# Altium footprint library ESP32_with pin.PcbLib: 1 footprints
Each footprint in its own frame and in the unit in brackets; x right, y up, seen from the top. Pads: shape width x height; smd on the part's side, far side on the other; paste and mask are expansions set on the pad; w line width, h text height; cw(c..) or ccw(c..) is an arc to the next point about the centre after c.
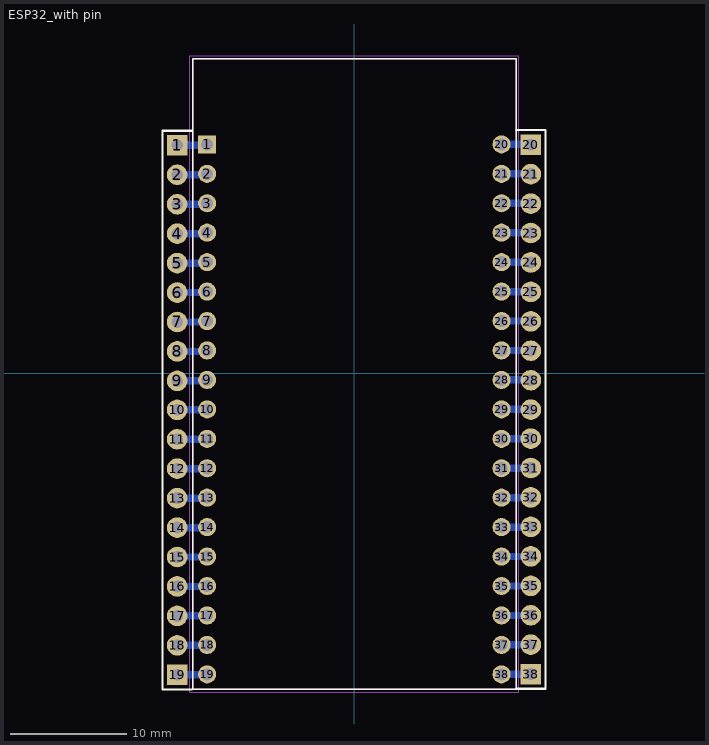
[diagram p0: the footprint, top view; thin cyan lines are the x and y axes]

## ESP32_with pin [mm]
pads (76):
  rect 1.778x1.778 hole 1.016: 1(-15.283,19.677) 19(-15.284,-25.999) 20(15.224,19.734) 38(15.223,-25.942)
  rect 1.56x1.56 hole 1.04: 1(-12.7,19.76)
  round 1.778 hole 1.016: 2(-15.283,17.137) 3(-15.283,14.597) 4(-15.283,12.057) 5(-15.283,9.517) 6(-15.283,6.977) 7(-15.283,4.437) 8(-15.283,1.897) 9(-15.283,-0.643) 10(-15.284,-3.139) 11(-15.284,-5.679) 12(-15.284,-8.219) 13(-15.284,-10.759) 14(-15.284,-13.299) 15(-15.284,-15.839) 16(-15.284,-18.379) 17(-15.284,-20.919) 18(-15.284,-23.459) 21(15.224,17.194) 22(15.224,14.654) 23(15.224,12.114) 24(15.224,9.574) 25(15.224,7.034) 26(15.224,4.494) 27(15.224,1.954) 28(15.224,-0.586) 29(15.224,-3.126) 30(15.223,-5.622) 31(15.223,-8.162) 32(15.223,-10.702) 33(15.223,-13.242) 34(15.223,-15.782) 35(15.223,-18.322) 36(15.223,-20.862) 37(15.223,-23.402)
  round 1.56 hole 1.04: 2(-12.7,17.22) 3(-12.7,14.68) 4(-12.7,12.14) 5(-12.7,9.6) 6(-12.7,7.06) 7(-12.7,4.52) 8(-12.7,1.98) 9(-12.7,-0.56) 10(-12.7,-3.1) 11(-12.7,-5.64) 12(-12.7,-8.18) 13(-12.7,-10.72) 14(-12.7,-13.26) 15(-12.7,-15.8) 16(-12.7,-18.34) 17(-12.7,-20.88) 18(-12.7,-23.42) 19(-12.7,-25.96) 20(12.7,19.76) 21(12.7,17.22) 22(12.7,14.68) 23(12.7,12.14) 24(12.7,9.6) 25(12.7,7.06) 26(12.7,4.52) 27(12.7,1.98) 28(12.7,-0.56) 29(12.7,-3.1) 30(12.7,-5.64) 31(12.7,-8.18) 32(12.7,-10.72) 33(12.7,-13.26) 34(12.7,-15.8) 35(12.7,-18.34) 36(12.7,-20.88) 37(12.7,-23.42) 38(12.7,-25.96)
Bottom Layer:
  lines w0.508: 12.7,19.76 15.197,19.76
  lines w0.635: -15.284,-25.999 -12.739,-25.999 ; -15.284,-23.459 -12.739,-23.459 ; -15.284,-20.919 -12.739,-20.919 ; -15.284,-18.379 -12.537,-18.379 ; -15.284,-15.839 -12.739,-15.839 ; -15.284,-13.299 -12.739,-13.299 ; -15.284,-10.759 -12.739,-10.759 ; -15.284,-8.219 -12.739,-8.219 ; -15.284,-5.679 -12.739,-5.679 ; -15.284,-3.139 -12.739,-3.139 ; -15.283,-0.643 -12.783,-0.643 ; -15.283,1.897 -12.783,1.897 ; -15.283,4.437 -12.783,4.437 ; -15.283,6.977 -12.783,6.977 ; -15.283,9.517 -12.783,9.517 ; -15.283,12.057 -12.783,12.057 ; -15.283,14.597 -12.783,14.597 ; -15.283,17.137 -12.783,17.137 ; -15.283,19.677 -12.783,19.677 ; 12.7,-25.96 15.204,-25.96 ; 12.7,-23.42 15.204,-23.42 ; 12.7,-20.88 15.204,-20.88 ; 12.7,-18.34 15.204,-18.34 ; 12.7,-15.8 15.204,-15.8 ; 12.7,-13.26 15.204,-13.26 ; 12.7,-10.72 15.204,-10.72 ; 12.7,-8.18 15.204,-8.18 ; 12.7,-5.64 15.204,-5.64 ; 12.7,-3.1 15.197,-3.1 ; 12.7,-0.56 15.197,-0.56 ; 12.7,1.98 15.197,1.98 ; 12.7,4.52 15.197,4.52 ; 12.7,7.06 15.197,7.06 ; 12.7,9.6 15.197,9.6 ; 12.7,12.14 15.197,12.14 ; 12.7,14.68 15.197,14.68 ; 12.7,17.22 15.197,17.22 ; 12.7,19.76 15.197,19.76
Top Overlay:
  lines w0.127: -13.95,-27.25 13.95,-27.25 13.95,27.15 -13.95,27.15 -13.95,-27.25
  lines w0.2: -16.554,-1.869 -16.554,-25.364 -16.554,-27.269 -14.014,-27.269 ; -16.553,-1.913 -16.553,20.947 -14.013,20.947 ; 13.953,-27.212 16.493,-27.212 16.493,-4.352 ; 13.954,21.004 16.494,21.004 16.494,19.099 16.494,-4.396
Mechanical 13:
  circle w0.28: c14.539,-26.165 r0.14
  circle w0.28: c-14.6,19.9 r0.14
  lines w0.127: -13.95,-27.25 -13.95,27.15 13.95,27.15 13.95,-27.25 -13.95,-27.25
Mechanical 15:
  lines w0.05: -14.2,-27.5 -14.2,27.4 14.2,27.4 14.2,-27.5 -14.2,-27.5
3D body "2.54X2_pinheader_male.SLDPRT": height 8.3, standoff -5.7, extent 13.954,15.923 16.494,21.003
3D body "2.54X2_pinheader_male.SLDPRT": height 8.3, standoff -5.7, extent 13.954,10.843 16.494,15.923
3D body "2.54X2_pinheader_male.SLDPRT": height 8.3, standoff -5.7, extent 13.954,5.763 16.494,10.843
3D body "2.54X2_pinheader_male.SLDPRT": height 8.3, standoff -5.7, extent 13.954,0.684 16.494,5.764
3D body "2.54X2_pinheader_male.SLDPRT": height 8.3, standoff -5.7, extent 13.954,-4.397 16.494,0.683
3D body "2.54X1_pinheader_male.SLDPRT": height 8.3, standoff -5.7, extent 13.952,-6.892 16.492,-4.352
3D body "2.54X2_pinheader_male.SLDPRT": height 8.3, standoff -5.7, extent 13.952,-11.972 16.492,-6.892
3D body "2.54X2_pinheader_male.SLDPRT": height 8.3, standoff -5.7, extent 13.952,-17.052 16.492,-11.972
3D body "2.54X2_pinheader_male.SLDPRT": height 8.3, standoff -5.7, extent 13.952,-22.132 16.492,-17.052
3D body "2.54X2_pinheader_male.SLDPRT": height 8.3, standoff -5.7, extent 13.952,-27.212 16.492,-22.132
3D body "2.54X2_pinheader_male.SLDPRT": height 8.3, standoff -5.7, extent -16.554,-27.269 -14.014,-22.189
3D body "2.54X2_pinheader_male.SLDPRT": height 8.3, standoff -5.7, extent -16.554,-22.189 -14.014,-17.109
3D body "2.54X2_pinheader_male.SLDPRT": height 8.3, standoff -5.7, extent -16.554,-17.109 -14.014,-12.029
3D body "2.54X2_pinheader_male.SLDPRT": height 8.3, standoff -5.7, extent -16.554,-12.029 -14.014,-6.949
3D body "2.54X2_pinheader_male.SLDPRT": height 8.3, standoff -5.7, extent -16.554,-6.949 -14.014,-1.869
3D body "2.54X1_pinheader_male.SLDPRT": height 8.3, standoff -5.7, extent -16.553,-1.914 -14.013,0.626
3D body "2.54X2_pinheader_male.SLDPRT": height 8.3, standoff -5.7, extent -16.553,0.626 -14.013,5.706
3D body "2.54X2_pinheader_male.SLDPRT": height 8.3, standoff -5.7, extent -16.553,5.706 -14.013,10.786
3D body "2.54X2_pinheader_male.SLDPRT": height 8.3, standoff -5.7, extent -16.553,10.786 -14.013,15.866
3D body "2.54X2_pinheader_male.SLDPRT": height 8.3, standoff -5.7, extent -16.553,15.866 -14.013,20.946
3D body "ESP32-DevKitC.stp": height 10.87, standoff -1.82, extent -13.97,-27.848 13.97,27.252